# Altium footprint library SON-6_2x2mm.PcbLib: 1 footprints
Each footprint in its own frame and in the unit in brackets; x right, y up, seen from the top. Pads: shape width x height; smd on the part's side, far side on the other; paste and mask are expansions set on the pad; w line width, h text height; cw(c..) or ccw(c..) is an arc to the next point about the centre after c.
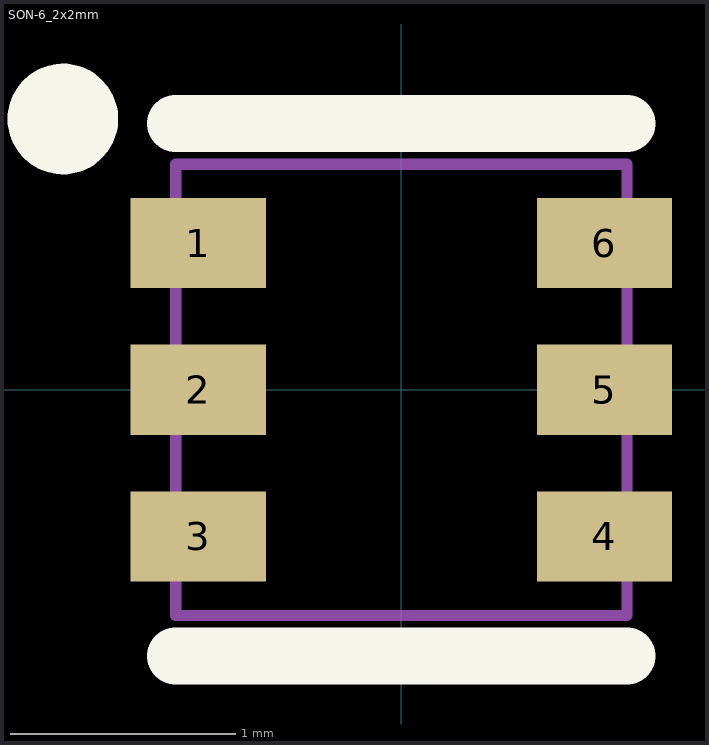
[diagram p0: the footprint, top view; thin cyan lines are the x and y axes]

## SON-6_2x2mm [mm]
pads (6):
  rect 0.6x0.4 smd mask+0.051: 1(-0.9,0.65) 2(-0.9,0) 3(-0.9,-0.65) 4(0.9,-0.65) 5(0.9,0) 6(0.9,0.65)
Top Overlay:
  circle w0.25: c-1.5,1.2 r0.12
  lines w0.254: -1,-1.18 1,-1.18 ; -1,1.18 1,1.18
Mechanical 1:
  lines w0.05: -1,-1 1,-1 ; -1,1 1,1
Mechanical 13:
  lines w0.05: -1,-1 1,-1 1,1 -1,1 -1,-1